# Altium footprint library FMP Miscellaneous Device.PcbLib: 47 footprints (part 2 of 3)
Each footprint in its own frame and in the unit in brackets; x right, y up, seen from the top. Pads: shape width x height; smd on the part's side, far side on the other; paste and mask are expansions set on the pad; w line width, h text height; cw(c..) or ccw(c..) is an arc to the next point about the centre after c.
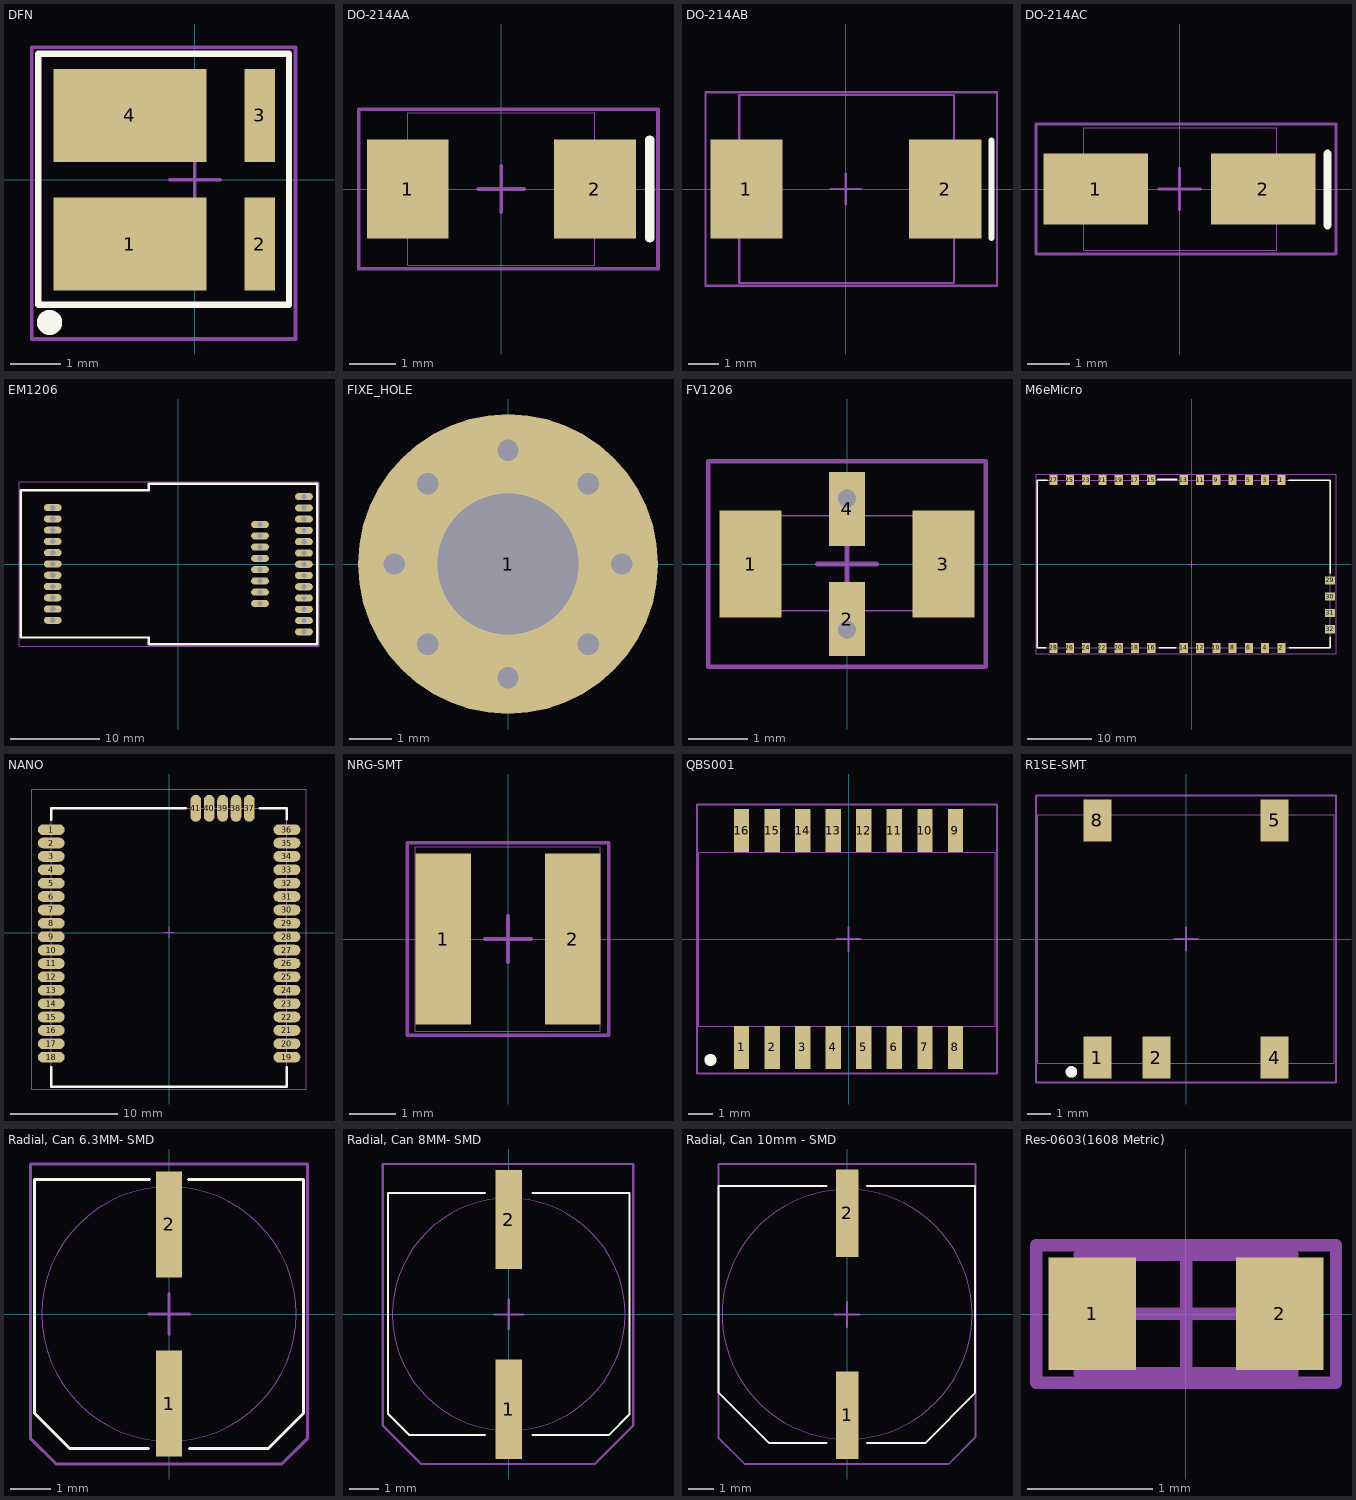
[diagram p1: the footprints below, top view; thin cyan lines are the x and y axes]

## DFN [mil] "QFN SMT"
height 33
pads (4):
  rect 120x73 smd: 1(-51,-50.5) 4(-51,50.5)
  rect 24x73 smd: 2(51,-50.5) 3(51,50.5)
Top Overlay:
  circle w9.84: c-114,-112 r4.92
  lines w5: -123,-98 -123,99 74,99 74,-98 -123,-98
Mechanical 13:
  lines w1: -123,-98.5 74,-98.5 74,98.5 -123,98.5 -123,-98.5
Mechanical 15:
  lines w3: -19.69,0 19.68,0 ; 0,-19.68 0,19.69 ; -128,-125 79,-125 79,-103 79,104 -128,104 -128,-125
3D body: height 33, standoff 3, extent -123,-98.5 73,98.5

## DO-214AA [mil] "SMB"
height 75
pads (2):
  rect 70x85 smd: 1(-80,0) 2(80,0)
Top Overlay:
  lines w7.87: 127,-42 127,42
Mechanical 13:
  lines w1: -80,-65 -80,65 80,65 80,-65 -80,-65
Mechanical 15:
  lines w3: -19.69,0 19.68,0 ; 0,-19.69 0,19.68 ; -122,-68 134,-68 134,40 134,68 -122,68 -122,-68
3D body: height 75, standoff 3, extent -80,-65 80,65

## DO-214AB [mil] "SMC J-Bend"
height 79
pads (2):
  rect 94x129 smd: 1(-129.5,0) 2(129.5,0)
Top Overlay:
  lines w7.87: 190,-64 190,63
Mechanical 13:
  lines w3: -139,-122.5 -139,122.5 141,122.5 141,-122.5 -139,-122.5
Mechanical 15:
  lines w3: -19.69,0 19.68,0 ; 0,-19.68 0,19.69 ; -183,-126 -183,61 -183,126 197,126 197,-126 -183,-126
3D body: height 79, standoff 3, extent -139,-122.5 141,122.5

## DO-214AC [mm] "SMA"
height 2.311
pads (2):
  rect 2.5x1.7 smd: 1(-2,0) 2(2,0)
Top Overlay:
  lines w0.2: 3.531,-0.864 3.531,0.838
Mechanical 13:
  lines w0.025: -2.286,-1.46 -2.286,1.46 2.314,1.46 2.314,-1.46 -2.286,-1.46
Mechanical 15:
  lines w0.076: -0.5,0 0.5,0 ; 0,-0.5 0,0.5 ; -3.429,-1.549 3.734,-1.549 3.734,1.549 -3.429,1.549 -3.429,0.787 -3.429,-1.549
3D body: height 2.31, standoff 0.08, extent -2.286,-1.46 2.314,1.46

## EM1206 [mm] "TH"
height 5.004
pads (32):
  oval 2x0.8 hole 0.6: 1A(14.15,7.62) 1B(-14.15,6.38) 1C(9.2,4.47) 2A(14.15,6.35) 2B(-14.15,5.11) 2C(9.2,3.2) 3A(14.15,5.08) 3B(-14.15,3.84) 3C(9.2,1.93) 4A(14.15,3.81) 4B(-14.15,2.57) 4C(9.2,0.66) 5A(14.15,2.54) 5B(-14.15,1.3) 5C(9.2,-0.61) 6A(14.15,1.27) 6B(-14.15,0.03) 6C(9.2,-1.88) 7A(14.15,0) 7B(-14.15,-1.24) 7C(9.2,-3.15) 8A(14.15,-1.27) 8B(-14.15,-2.51) 8C(9.2,-4.42) 9A(14.15,-2.54) 9B(-14.15,-3.78) 10A(14.15,-3.81) 10B(-14.15,-5.05) 11A(14.15,-5.08) 11B(-14.15,-6.32) 12A(14.15,-6.35) 13A(14.15,-7.62)
Top Overlay:
  lines w0.254: -17.75,-8.27 -17.75,8.33 -3.35,8.33 -3.35,9.08 15.65,9.08 15.65,-9.02 -3.35,-9.02 -3.35,-8.27 -17.75,-8.27
Mechanical 13:
  lines w0.025: -17.755,-8.255 -17.755,8.331 -3.353,8.331 -3.353,9.093 15.646,9.093 15.646,-9.017 -3.353,-9.017 -3.353,-8.255 -17.755,-8.255
Mechanical 15:
  lines w0.076: -17.958,-9.22 -17.958,9.271 15.85,9.271 15.85,-9.22 -17.958,-9.22
3D body: height 5, standoff 0.08, extent -17.755,-9.017 15.646,9.093

## FIXE_HOLE [mm]
pads (1):
  round 7 hole 3.3: 1(0,0)
via 2.65,0 diameter 0.711 hole 0.5
via -2.65,0 diameter 0.711 hole 0.5
via 1.876,1.874 diameter 0.711 hole 0.5
via 1.876,-1.874 diameter 0.711 hole 0.5
via -1.874,1.874 diameter 0.711 hole 0.5
via -1.874,-1.874 diameter 0.711 hole 0.5
via 0,2.65 diameter 0.711 hole 0.5
via 0,-2.65 diameter 0.711 hole 0.5

## FV1206 [mil] "HPF SMT"
height 37
pads (4):
  rect 41x71 smd: 1(-64,0) 3(64,0)
  rect 24x49 smd: 2(0,-36.5) 4(0,36.5)
via 0,43.5 diameter 20 hole 12
via 0,-43.5 diameter 20 hole 12
Mechanical 13:
  lines w1: -64,-31 -64,32 62,32 62,-31 -64,-31
Mechanical 15:
  lines w3: -19.69,0 19.68,0 ; 0,-19.69 0,19.68 ; -92,-68 -92,68 -12,68 92,68 92,-68 -92,-68
3D body: height 37, standoff 0, extent -64,-31 62,32

## M6eMicro [mm]
pads (32):
  rect 1.27x1.524 smd: 1(13.98,13.1) 2(13.98,-13.1) 3(11.44,13.1) 4(11.44,-13.1) 5(8.9,13.1) 6(8.9,-13.1) 7(6.36,13.1) 8(6.36,-13.1) 9(3.82,13.1) 10(3.82,-13.1) 11(1.28,13.1) 12(1.28,-13.1) 13(-1.26,13.1) 14(-1.26,-13.1) 15(-6.34,13.1) 16(-6.34,-13.1) 17(-8.88,13.1) 18(-8.88,-13.1) 19(-11.42,13.1) 20(-11.42,-13.1) 21(-13.96,13.1) 22(-13.96,-13.1) 23(-16.5,13.1) 24(-16.5,-13.1) 25(-19.04,13.1) 26(-19.04,-13.1) 27(-21.58,13.1) 28(-21.58,-13.1)
  rect 1.524x1.27 smd: 29(21.58,-2.56) 30(21.58,-5.1) 31(21.58,-7.64) 32(21.58,-10.18)
Top Overlay:
  lines w0.254: -22.85,-13.1 -24.12,-13.1 -24.12,13.1 -22.596,13.1 ; -5.324,13.189 -2.403,13.189 ; -5.07,-13.1 -2.53,-13.1 ; 15.123,13.1 21.58,13.1 21.6,13.1 21.6,-1.416 ; 15.25,-13.1 21.58,-13.1 ; 21.6,-11.449 21.6,-13.1 ; 21.58,-13.1 21.6,-13.1 ; 21.58,-13.1 21.6,-13.1
Top Paste:
  region: 4.318,11.633 11.481,11.633 11.481,7.341 14.986,7.341 14.986,11.633 15.646,11.633 15.646,-2.692 20.117,-2.692 20.117,-12.522 15.367,-12.522 15.367,-11.608 8.788,-11.608 8.788,5.156 4.318,5.156
  region: -4.42,0.203 5.105,0.203 5.105,-9.474 -4.42,-9.474
Top Solder:
  region: 4.318,11.633 11.481,11.633 11.481,7.341 14.986,7.341 14.986,11.633 15.646,11.633 15.646,-2.692 20.117,-2.692 20.117,-12.522 15.367,-12.522 15.367,-11.608 8.788,-11.608 8.788,5.156 4.318,5.156
  region: -4.42,0.203 5.105,0.203 5.105,-9.474 -4.42,-9.474
  lines w0.025: -4.42,-9.474 -4.42,0.203 5.105,0.203 5.105,-9.474 -4.42,-9.474 ; 4.318,5.156 4.318,11.633 11.481,11.633 11.481,7.341 14.986,7.341 14.986,11.633 15.646,11.633 15.646,-2.692 20.117,-2.692 20.117,-12.522 15.367,-12.522 15.367,-11.608 8.788,-11.608 8.788,5.156 4.318,5.156
Mechanical 13:
  lines w0.025: -24.13,-13.106 21.59,-13.106 21.59,13.106 -24.13,13.106 -24.13,-13.106
Mechanical 15:
  lines w0.076: -0.5,0 0.5,0 ; 0,-0.5 0,0.5 ; -24.333,-14.046 -24.333,14.046 -22.327,14.046 22.504,14.046 22.504,-14.046 -24.333,-14.046
3D body: height 5, standoff 0.08, extent -24.13,-13.106 21.59,13.106

## NANO [mil] "NANO MODULE"
height 110
pads (41):
  oval 99x39.4 smd: 1(-433.07,379.08) 2(-433.07,329.88) 3(-433.07,280.67) 4(-433.07,231.46) 5(-433.07,182.25) 6(-433.07,133.03) 7(-433.07,83.83) 8(-433.07,34.62) 9(-433.07,-14.6) 10(-433.07,-63.8) 11(-433.07,-113.02) 12(-433.07,-162.22) 13(-433.07,-211.44) 14(-433.07,-260.64) 15(-433.07,-309.86) 16(-433.07,-359.06) 17(-433.07,-408.27) 18(-433.07,-457.49) 19(433.07,-457.49) 20(433.07,-408.27) 21(433.07,-359.06) 22(433.07,-309.86) 23(433.07,-260.64) 24(433.07,-211.44) 25(433.07,-162.22) 26(433.07,-113.02) 27(433.07,-63.8) 28(433.07,-14.6) 29(433.07,34.62) 30(433.07,83.83) 31(433.07,133.03) 32(433.07,182.25) 33(433.07,231.46) 34(433.07,280.67) 35(433.07,329.88) 36(433.07,379.08)
  oval 39.4x99 smd: 37(295.28,457.49) 38(246.07,457.49) 39(196.86,457.49) 40(147.65,457.49) 41(98.44,457.49)
Top Overlay:
  lines w10: -433.07,-494.92 -433.07,-565.79 ; -432.93,416.08 -432.93,457.82 61.07,457.82 ; 333.07,457.82 433.07,457.82 ; 377.07,457.82 433.07,457.82 ; 433.07,-494.92 433.07,-565.79 ; -433.07,-565.79 433.07,-565.79 ; -433.07,-565.79 433.07,-565.79 ; 433.07,457.82 433.07,417.08 433.07,457.82
Top Paste:
  region: 268.28,295.49 -191.72,295.49 -191.72,232.49 268.28,232.49
  region: 252.28,102.48 -18.72,102.49 -18.72,-164.51 252.28,-164.52
Top Solder:
  region: 268.28,295.49 -191.72,295.49 -191.72,232.49 268.28,232.49
  region: 252.28,102.48 -18.72,102.49 -18.72,-164.51 252.28,-164.52
Mechanical 13:
  lines w1: -432.72,-565.51 433.28,-565.51 433.28,458.49 -432.72,458.49 -432.72,421.49 -432.72,-565.51
Mechanical 15:
  lines w3: -19.68,1 19.69,1 ; 0,-18.69 0,20.68 ; -504.72,-574.51 -504.72,378.49 -504.72,528.49 147.28,528.49 504.28,528.49 504.28,-574.51 -504.72,-574.51
3D body: height 110, standoff 0, extent -432.72,-565.51 433.28,458.49

## NRG-SMT [mm] "Nonstandard SMT"
height 2.591
pads (2):
  rect 1.2x3.7 smd: 1(-1.4,0) 2(1.4,0)
Mechanical 13:
  lines w0.025: -2.007,-2 -2.007,2 1.993,2 1.993,-2 -2.007,-2
Mechanical 15:
  lines w0.076: -0.5,0 0.5,0 ; 0,-0.5 0,0.5 ; -2.184,-2.083 2.184,-2.083 2.184,2.083 -2.184,2.083 -2.184,-2.083
3D body: height 2.59, standoff 0.08, extent -2.007,-2 1.993,2

## QBS001 [mil] "SMT"
height 225
pads (16):
  rect 25x70 smd: 1(-175,-177.5) 2(-125,-177.5) 3(-75,-177.5) 4(-25,-177.5) 5(25,-177.5) 6(75,-177.5) 7(125,-177.5) 8(175,-177.5) 9(175,177.5) 10(125,177.5) 11(75,177.5) 12(25,177.5) 13(-25,177.5) 14(-75,177.5) 15(-125,177.5) 16(-175,177.5)
Top Overlay:
  circle w9.84: c-226,-198 r4.92
Mechanical 13:
  lines w1: -245,-143 240,-143 240,142 -245,142 -245,-143
Mechanical 15:
  lines w3: -19.69,0 19.68,0 ; 0,-19.69 0,19.68 ; -248,-220 -248,220 -191,220 243,220 243,-220 -248,-220
3D body: height 225, standoff 3, extent -245,-143 240,142

## R1SE-SMT [mm] "DC-DC SMT"
height 6.706
pads (5):
  rect 1.2x1.8 smd: 1(-3.81,-5.1) 2(-1.27,-5.1) 4(3.81,-5.1) 5(3.81,5.1) 8(-3.81,5.1)
Top Overlay:
  circle w0.25: c-4.928,-5.715 r0.125
Mechanical 13:
  lines w0.025: -6.375,-5.35 6.375,-5.35 6.375,5.35 -6.375,5.35 -6.375,-5.35
Mechanical 15:
  lines w0.076: -0.5,0 0.5,0 ; 0,-0.5 0,0.5 ; -6.452,-6.172 6.452,-6.172 6.452,6.172 -4.42,6.172 -6.452,6.172 -6.452,-6.172
3D body: height 6.71, standoff 0.08, extent -6.375,-5.35 6.375,5.35

## Radial, Can 6.3MM- SMD [mm] "Radial, Can - SMD Diameter 6.3mm"
height 5.385
pads (2):
  rect 0.65x2.601 smd: 1(0,-2.2) 2(0,2.2)
Top Overlay:
  lines w0.076: -0.508,-3.302 -2.438,-3.302 -3.302,-2.438 -3.302,3.302 -0.483,3.302 ; 0.483,3.302 3.302,3.302 3.302,-2.438 2.438,-3.302 0.508,-3.302
Mechanical 13:
  circle w0.025: c0,0 r3.125
Mechanical 15:
  lines w0.076: -0.5,0 0.5,0 ; 0,-0.5 0,0.5 ; -3.404,-3.048 -3.404,3.683 -0.33,3.683 3.404,3.683 3.404,-3.048 2.769,-3.683 -2.769,-3.683 -3.404,-3.048
3D body: height 5.38, standoff 0, extent -3.125,-3.143 3.15,3.143

## Radial, Can 8MM- SMD [mil] "Radial, Can - SMD Diameter 8mm"
height 394
pads (2):
  rect 36x134 smd: 1(0,-128) 2(0,128)
Top Overlay:
  lines w3: -32,-163 -134,-163 -163,-134 -163,164 -32,164 ; 32,-163 135,-163 163,-135 163,164 32,164
Mechanical 13:
  circle w1: c0,0 r157
Mechanical 15:
  lines w3: -19.69,0 19.68,0 ; 0,-19.69 0,19.68 ; -170,-150 -118,-202 116,-202 168,-150 168,203 -170,203 -170,-150
3D body: height 394, standoff 0, extent -156,-157 156.76,156.38

## Radial, Can 10mm - SMD [mm] "Radial, Can - SMD Diameter 10mm"
height 10.185
pads (2):
  rect 0.9x3.5 smd: 1(0,-4.05) 2(0,4.05)
Top Overlay:
  lines w0.076: -0.813,-5.156 -3.124,-5.156 -5.156,-3.124 -5.156,5.131 -0.813,5.131 ; 0.787,-5.156 3.124,-5.156 5.131,-3.15 5.131,5.131 0.787,5.131
Mechanical 13:
  circle w0.025: c0,0 r5.004
Mechanical 15:
  lines w0.076: -0.5,0 0.5,0 ; 0,-0.5 0,0.5 ; -5.15,-4.934 -5.15,6.02 5.15,6.02 5.15,-4.909 4.064,-5.994 -4.089,-5.994 -5.15,-4.934
3D body: height 10.19, standoff 0, extent -4.964,-4.994 5.004,4.994

## Res-0603(1608 Metric) [mm] "Chip Resistor, Body 1.6x0.8mm, IPC High Density"
height 0.9
pads (2):
  rect 0.7x0.9 smd: 1(-0.75,0) 2(0.75,0)
Mechanical 13:
  lines w0.1: -0.85,-0.475 0.85,-0.475 0.85,0.475 -0.85,0.475 -0.85,-0.475
Mechanical 15:
  lines w0.1: -0.475,0 0.475,0 ; 0,-0.475 0,0.475 ; -1.2,-0.55 1.2,-0.55 1.2,0.55 -1.2,0.55 -1.2,-0.55
3D body: height 0.9, standoff 0, extent -0.85,-0.475 0.85,0.475